# Altium footprint library libMilpcb.PcbLib: 9 footprints
Each footprint in its own frame and in the unit in brackets; x right, y up, seen from the top. Pads: shape width x height; smd on the part's side, far side on the other; paste and mask are expansions set on the pad; w line width, h text height; cw(c..) or ccw(c..) is an arc to the next point about the centre after c.
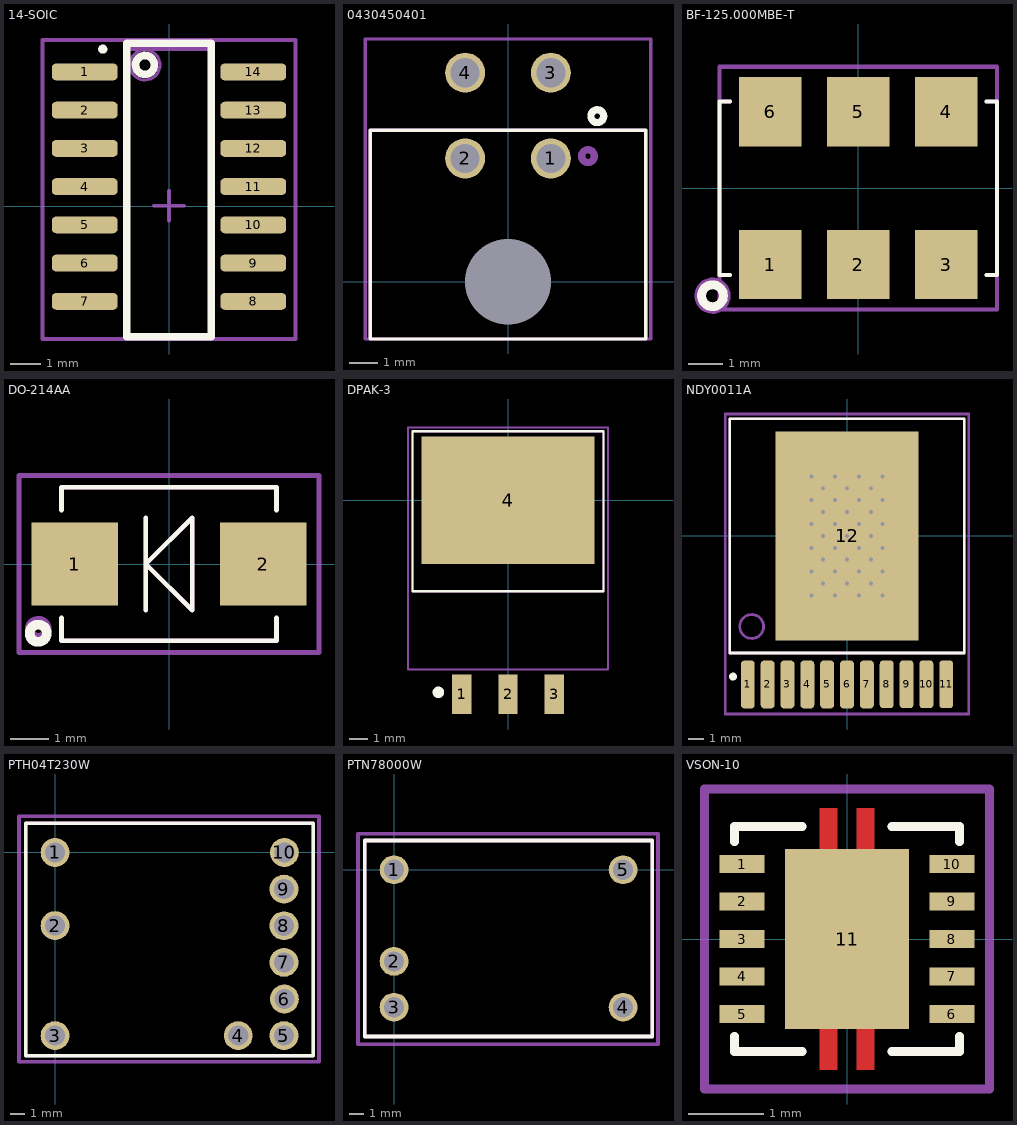
[diagram p0: the footprints below, top view; thin cyan lines are the x and y axes]

## 14-SOIC [mm]
pads (14):
  rrect50% 2.184x0.559 smd paste-0.025 mask+0.07: 1(-2.8,4.47) 2(-2.8,3.2) 3(-2.8,1.93) 4(-2.8,0.66) 5(-2.8,-0.61) 6(-2.8,-1.88) 7(-2.8,-3.15) 8(2.8,-3.15) 9(2.8,-1.88) 10(2.8,-0.61) 11(2.8,0.66) 12(2.8,1.93) 13(2.8,3.2) 14(2.8,4.47)
Top Overlay:
  circle w0.152: c-2.2,5.225 r0.076
  lines w0.254: -0.486,4.7 cw(c-0.8,4.7) -0.487,4.722 ; -1.4,-4.325 -1.4,5.425 1.4,5.425 1.4,-4.325 -1.4,-4.325
Mechanical 1:
  circle w0.1: c-0.8,4.7 r0.5
  lines w0.127: -1.4,-4.325 -1.4,5.225 1.4,5.225 1.4,-4.325 -1.4,-4.325
Mechanical 15:
  lines w0.127: -0.5,0.025 0.5,0.025 ; 0,-0.475 0,0.525 ; -4.2,-4.4 -4.2,5.525 4.2,5.525 4.2,-4.4 -4.2,-4.4
3D body: height 0.25, standoff 0, extent -1.6,-4.4 1.6,5.27

## 0430450401 [mm]
pads (5):
  rect 0x0 hole 3 unplated: 0(0,0)
  round 1.4 hole 1.02 unplated: 1(1.5,4.32) 2(-1.5,4.32) 3(1.5,7.32) 4(-1.5,7.32)
Top Overlay:
  circle w0.254: c3.124,5.8 r0.224
  lines w0.12: -4.825,-2 4.825,-2 4.825,5.31 -4.825,5.31 -4.825,-2
Mechanical 1:
  circle w0.254: c2.8,4.4 r0.224
  lines w0.12: -4.825,-2 -4.825,5.31 4.825,5.31 4.825,-2 -4.825,-2
Mechanical 15:
  lines w0.12: -5,-2 5,-2 5,8.5 -5,8.5 -5,-2
3D body "430450401.stp": height 8.83, standoff -3.12, extent -5.075,-4.55 5.075,7.69
3D body: height 0.25, standoff 0, extent 0,0 0,0

## BF-125.000MBE-T [mm]
pads (6):
  rect 1.8x2 smd: 1(-2.54,-2.2) 2(0,-2.2) 3(2.54,-2.2) 4(2.54,2.2) 5(0,2.2) 6(-2.54,2.2)
Top Overlay:
  circle w0.254: c-4.2,-3.1 r0.316
  lines w0.12: -3.7,-2.5 -4,-2.5 -4,2.5 -3.7,2.5 ; 3.7,-2.5 4,-2.5 4,2.5 3.7,2.5
Mechanical 1:
  circle w0.15: c-4.2,-3.1 r0.447
  lines w0.12: -3.7,-2.5 -4,-2.5 -4,2.5 -3.7,2.5 ; 3.7,-2.5 4,-2.5 4,2.5 3.7,2.5
Mechanical 15:
  lines w0.12: -4,-3.5 -4,3.5 4,3.5 4,-3.5 -4,-3.5

## DO-214AA [mm]
pads (2):
  rect 2.26x2.16 smd: 1(-2.45,0) 2(2.45,0)
Top Overlay:
  circle w0.254: c-3.4,-1.8 r0.224
  lines w0.12: -2.795,-1.4 -2.795,-2 2.795,-2 2.795,-1.4 ; -2.795,1.4 -2.795,2 2.795,2 2.795,1.4 ; -0.6,-1.2 -0.6,1.2 ; -0.6,0 0.6,-1.2 0.6,1.2 -0.6,0 ; -0.6,0 -0.6,0
Mechanical 1:
  circle w0.254: c-3.4,-1.7 r0.224
  lines w0.12: -2.795,-1.4 -2.795,-2 2.795,-2 2.795,-1.4 ; -2.795,1.4 -2.795,2 2.795,2 2.795,1.4 ; -0.6,-1.2 -0.6,1.2 ; -0.6,0 0.6,1.2 0.6,-1.2 -0.6,0
Mechanical 15:
  lines w0.12: -3.9,-2.3 -3.9,2.3 3.9,2.3 3.9,-2.3 -3.9,-2.3

## DPAK-3 [mm]
pads (4):
  rect 1.07x2.16 smd: 1(-2.54,-10.67) 2(0,-10.67) 3(2.54,-10.67)
  rect 9.5x7 smd: 4(0,0)
Top Overlay:
  circle w0.381: c-3.831,-10.559 r0.127
  lines w0.12: -5.25,-5 5.25,-5 5.25,3.8 -5.25,3.8 -5.25,-5
Mechanical 1:
  lines w0.12: -5.25,-5 -5.25,3.8 5.25,3.8 5.25,-5 -5.25,-5
Mechanical 15:
  lines w0.12: -5.5,-9.3 5.5,-9.3 5.5,4 -5.5,4 -5.5,-9.3

## NDY0011A [mm]
pads (12):
  rrect50% 0.89x3.06 smd paste+0 mask+0.07: 1(-6.35,-9.51) 2(-5.08,-9.51) 3(-3.81,-9.51) 4(-2.54,-9.51) 5(-1.27,-9.51) 6(0,-9.51) 7(1.27,-9.51) 8(2.54,-9.5) 9(3.81,-9.5) 10(5.08,-9.5) 11(6.35,-9.5)
  rect 9.126x13.37 smd paste-10 mask+0.07: 12(0,0)
via -2.286,3.81 diameter 0.508 hole 0.254
via -0.762,3.81 diameter 0.508 hole 0.254
via 0.762,3.81 diameter 0.508 hole 0.254
via 2.286,3.81 diameter 0.508 hole 0.254
via 1.524,3.048 diameter 0.508 hole 0.254
via -1.524,3.048 diameter 0.508 hole 0.254
via 2.286,2.286 diameter 0.508 hole 0.254
via 0.762,2.286 diameter 0.508 hole 0.254
via -0.762,2.286 diameter 0.508 hole 0.254
via -2.286,2.286 diameter 0.508 hole 0.254
via 1.524,1.524 diameter 0.508 hole 0.254
via -1.524,1.524 diameter 0.508 hole 0.254
via 2.286,0.762 diameter 0.508 hole 0.254
via 0.762,0.762 diameter 0.508 hole 0.254
via -0.762,0.762 diameter 0.508 hole 0.254
via -2.286,0.762 diameter 0.508 hole 0.254
via 1.524,0 diameter 0.508 hole 0.254
via 0,0 diameter 0.508 hole 0.254
via -1.524,0 diameter 0.508 hole 0.254
via 2.286,-0.762 diameter 0.508 hole 0.254
via 0.762,-0.762 diameter 0.508 hole 0.254
via -0.762,-0.762 diameter 0.508 hole 0.254
via -2.286,-0.762 diameter 0.508 hole 0.254
via 1.524,-1.524 diameter 0.508 hole 0.254
via 0,-1.524 diameter 0.508 hole 0.254
via -1.524,-1.524 diameter 0.508 hole 0.254
via 2.286,-2.286 diameter 0.508 hole 0.254
via 0.762,-2.286 diameter 0.508 hole 0.254
via -0.762,-2.286 diameter 0.508 hole 0.254
via 1.524,-3.048 diameter 0.508 hole 0.254
via 0,-3.048 diameter 0.508 hole 0.254
via 2.286,-3.81 diameter 0.508 hole 0.254
via 0.762,-3.81 diameter 0.508 hole 0.254
via -0.762,-3.81 diameter 0.508 hole 0.254
via -2.286,-3.81 diameter 0.508 hole 0.254
via -2.286,-2.286 diameter 0.508 hole 0.254
via -1.524,-3.048 diameter 0.508 hole 0.254
via 0,3.048 diameter 0.508 hole 0.254
via 0,1.524 diameter 0.508 hole 0.254
Top Overlay:
  circle w0.25: c-7.297,-9.005 r0.125
  lines w0.175: -7.5,-7.5 7.5,-7.5 7.5,7.5 -7.5,7.5 -7.5,-7.5
Top Paste:
  region: 2.676,1.355 0.101,1.355 0.101,-1.355 2.676,-1.355
  region: 2.676,-1.555 0.101,-1.555 0.101,-4.265 2.676,-4.265
  region: 2.676,4.265 0.101,4.265 0.101,1.555 2.676,1.555
  rectangle: -2.676,1.555 -0.101,4.265
  rectangle: -2.676,-4.265 -0.101,-1.555
  rectangle: -2.676,-1.355 -0.101,1.355
Mechanical 1:
  circle w0.175: c-6.1,-5.8 r0.762
  lines w0.175: -7.5,-7.5 7.5,-7.5 7.5,7.5 -7.5,7.5 -7.5,-7.5
Mechanical 15:
  lines w0.175: -0.762,0 0,0 ; 0,-0.762 0,0 ; 0,0.762 0,0 ; 0.762,0 0,0 ; -7.8,-11.4 -7.8,7.8 7.8,7.8 7.8,-11.4 -7.8,-11.4
3D body: height 0.25, standoff 0, extent -7.5,-11.1 7.5,7.5

## PTH04T230W [mm]
pads (10):
  round 2 hole 1.4: 1(0,0) 2(0,-5.07) 3(0,-12.7) 4(12.7,-12.7) 5(15.87,-12.7) 6(15.9,-10.16) 7(15.87,-7.62) 8(15.87,-5.08) 9(15.87,-2.54) 10(15.9,0)
Top Overlay:
  lines w0.254: -2.035,-14.1 17.9,-14.1 17.9,2.03 -2.035,2.03 -2.035,-14.1
Mechanical 1:
  lines w0.254: -2.035,-14.1 -2.035,2.03 17.9,2.03 17.9,-14.1 -2.035,-14.1
Mechanical 15:
  lines w0.254: -2.5,-14.5 -2.5,2.5 18.3,2.5 18.3,-14.5 -2.5,-14.5

## PTN78000W [mm]
pads (5):
  round 2 hole 1.4: 1(0,0) 2(0,-6.35) 3(0,-9.53) 4(15.88,-9.53) 5(15.88,0)
Top Overlay:
  lines w0.254: -2.035,-11.565 17.9,-11.565 17.9,2.03 -2.035,2.03 -2.035,-11.565
Mechanical 1:
  lines w0.254: -2.035,-11.565 -2.035,2.03 17.9,2.03 17.9,-11.565 -2.035,-11.565
Mechanical 15:
  lines w0.254: -2.5,-12.1 -2.5,2.5 18.3,2.5 18.3,-12.1 -2.5,-12.1

## VSON-10 [mm]
pads (11):
  rect 0.6x0.24 smd: 1(-1.4,1) 2(-1.4,0.5) 3(-1.4,0) 4(-1.4,-0.5) 5(-1.4,-1) 6(1.4,-1) 7(1.4,-0.5) 8(1.4,0) 9(1.4,0.5) 10(1.4,1)
  rect 1.65x2.4 smd: 11(0,0)
Top Layer:
  rectangle: -0.37,-1.75 -0.13,-1.15
  rectangle: 0.13,-1.75 0.37,-1.15
  rectangle: -0.37,1.15 -0.13,1.75
  rectangle: 0.13,1.15 0.37,1.75
Top Overlay:
  lines w0.12: -1.5,-1.3 -1.5,-1.5 -0.6,-1.5 ; -1.5,1.3 -1.5,1.5 -0.6,1.5 ; 0.6,-1.5 1.5,-1.5 1.5,-1.3 ; 0.6,1.5 1.5,1.5 1.5,1.3
Top Solder:
  rectangle: -0.45,-1.825 -0.05,-1.075
  rectangle: 0.05,-1.825 0.45,-1.075
  rectangle: -0.45,1.075 -0.05,1.825
  rectangle: 0.05,1.075 0.45,1.825
Mechanical 1:
  lines w0.12: -1.5,-1.3 -1.5,-1.5 -0.6,-1.5 ; -1.5,1.3 -1.5,1.5 -0.6,1.5 ; 0.6,-1.5 1.5,-1.5 1.5,-1.3 ; 0.6,1.5 1.5,1.5 1.5,1.3
Mechanical 15:
  lines w0.12: -1.9,-2 -1.9,2 1.9,2 1.9,-2 -1.9,-2